# Altium footprint library J 接插件.PcbLib: 458 footprints (part 20 of 29)
Each footprint in its own frame and in the unit in brackets; x right, y up, seen from the top. Pads: shape width x height; smd on the part's side, far side on the other; paste and mask are expansions set on the pad; w line width, h text height; cw(c..) or ccw(c..) is an arc to the next point about the centre after c.
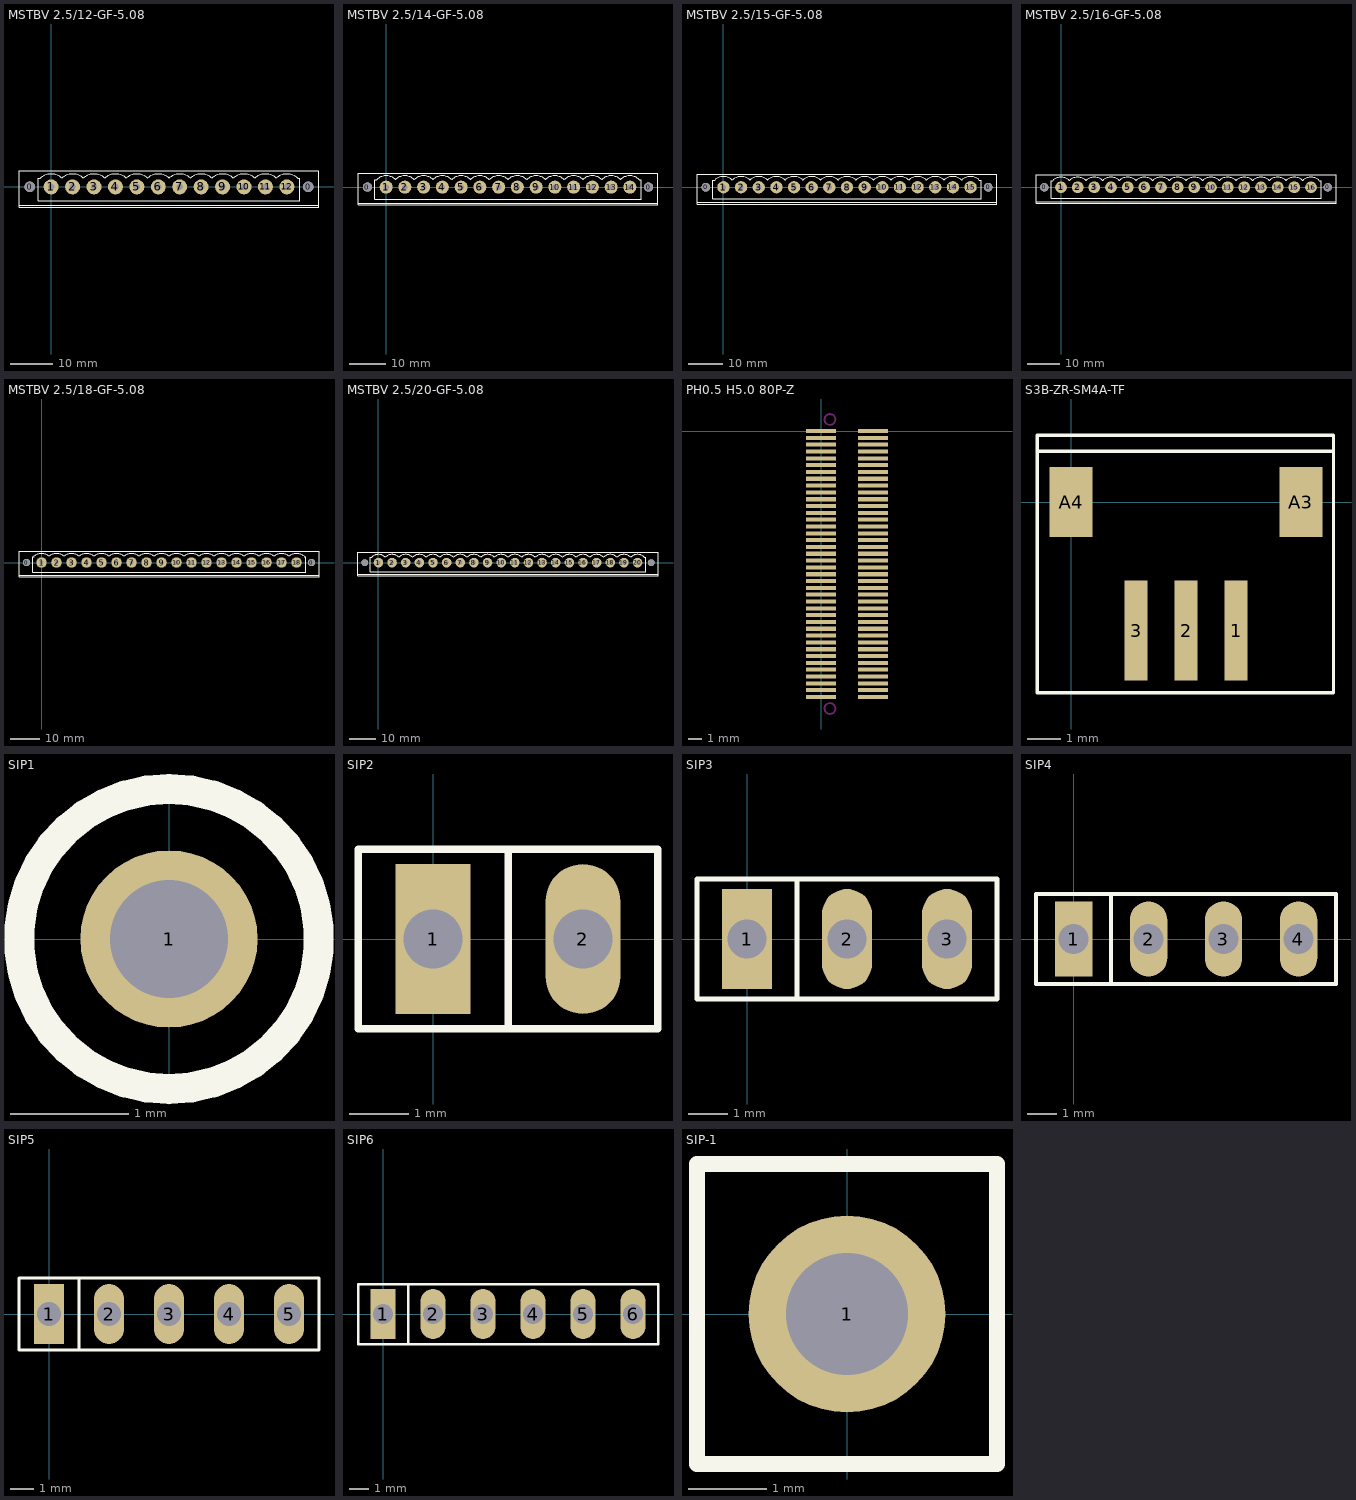
[diagram p19: the footprints below, top view; thin cyan lines are the x and y axes]

## MSTBV 2.5/12-GF-5.08 [mil] "菲尼克斯端子-5.08-带螺丝固定"
pads (14):
  round 98.43 hole 98.43: 0(-200,0) 0(2400,0)
  round 140 hole 59.05: 1(0,0) 2(200,0) 3(400,0) 4(600,0) 5(800,0) 6(1000,0) 7(1200,0) 8(1400,0) 9(1600,0) 10(1800,0) 11(2000,0) 12(2200,0)
Top Overlay:
  lines w10: -300,-170 2500,-170 ; -101.36,80.57 cw(c0,-30) 100.9,80.99 ; -100,80 -120,80 -120,-130 2320,-130 2320,80 2300,80 ; 98.64,80.57 cw(c200,-30) 300.9,80.99 ; 298.64,80.57 cw(c400,-30) 500.9,80.99 ; 498.64,80.57 cw(c600,-30) 700.9,80.99 ; 698.64,80.57 cw(c800,-30) 900.9,80.99 ; 899.1,80.99 cw(c1000,-30) 1100.9,80.99 ; 1098.64,80.57 cw(c1200,-30) 1300.9,80.99 ; 1298.64,80.57 cw(c1400,-30) 1500.9,80.99 ; 1498.64,80.57 cw(c1600,-30) 1700.9,80.99 ; 1698.64,80.57 cw(c1800,-30) 1900.9,80.99 ; 1898.64,80.57 cw(c2000,-30) 2100.9,80.99 ; 2098.64,80.57 cw(c2200,-30) 2300.9,80.99 ; -300,-190 -300,150 2500,150 2500,-190 -300,-190

## MSTBV 2.5/14-GF-5.08 [mil] "菲尼克斯端子-5.08-带螺丝固定"
pads (16):
  round 98.43 hole 98.43: 0(-200,0) 0(2800,0)
  round 140 hole 59.05: 1(0,0) 2(200,0) 3(400,0) 4(600,0) 5(800,0) 6(1000,0) 7(1200,0) 8(1400,0) 9(1600,0) 10(1800,0) 11(2000,0) 12(2200,0) 13(2400,0) 14(2600,0)
Top Overlay:
  lines w10: -300,-170 2900,-170 ; -101.36,80.57 cw(c0,-30) 100.9,80.99 ; -100,80 -120,80 -120,-130 2720,-130 2720,80 2700,80 ; 98.64,80.57 cw(c200,-30) 300.9,80.99 ; 298.64,80.57 cw(c400,-30) 500.9,80.99 ; 498.64,80.57 cw(c600,-30) 700.9,80.99 ; 698.64,80.57 cw(c800,-30) 900.9,80.99 ; 899.1,80.99 cw(c1000,-30) 1100.9,80.99 ; 1098.64,80.57 cw(c1200,-30) 1300.9,80.99 ; 1298.64,80.57 cw(c1400,-30) 1500.9,80.99 ; 1498.64,80.57 cw(c1600,-30) 1700.9,80.99 ; 1698.64,80.57 cw(c1800,-30) 1900.9,80.99 ; 1898.64,80.57 cw(c2000,-30) 2100.9,80.99 ; 2098.64,80.57 cw(c2200,-30) 2300.9,80.99 ; 2298.64,80.57 cw(c2400,-30) 2500.9,80.99 ; 2498.64,80.57 cw(c2600,-30) 2700.9,80.99 ; -300,-190 -300,150 2900,150 2900,-190 -300,-190

## MSTBV 2.5/15-GF-5.08 [mil] "菲尼克斯端子-5.08-带螺丝固定"
pads (17):
  round 98.43 hole 98.43: 0(-200,0) 0(3000,0)
  round 140 hole 59.05: 1(0,0) 2(200,0) 3(400,0) 4(600,0) 5(800,0) 6(1000,0) 7(1200,0) 8(1400,0) 9(1600,0) 10(1800,0) 11(2000,0) 12(2200,0) 13(2400,0) 14(2600,0) 15(2800,0)
Top Overlay:
  lines w10: -300,-170 3100,-170 ; -101.36,80.57 cw(c0,-30) 100.9,80.99 ; -100,80 -120,80 -120,-130 2920,-130 2920,80 2900,80 ; 98.64,80.57 cw(c200,-30) 300.9,80.99 ; 298.64,80.57 cw(c400,-30) 500.9,80.99 ; 498.64,80.57 cw(c600,-30) 700.9,80.99 ; 698.64,80.57 cw(c800,-30) 900.9,80.99 ; 899.1,80.99 cw(c1000,-30) 1100.9,80.99 ; 1098.64,80.57 cw(c1200,-30) 1300.9,80.99 ; 1298.64,80.57 cw(c1400,-30) 1500.9,80.99 ; 1498.64,80.57 cw(c1600,-30) 1700.9,80.99 ; 1698.64,80.57 cw(c1800,-30) 1900.9,80.99 ; 1898.64,80.57 cw(c2000,-30) 2100.9,80.99 ; 2098.64,80.57 cw(c2200,-30) 2300.9,80.99 ; 2298.64,80.57 cw(c2400,-30) 2500.9,80.99 ; 2498.64,80.57 cw(c2600,-30) 2700.9,80.99 ; 2698.64,80.57 cw(c2800,-30) 2900.9,80.99 ; -300,-190 -300,150 3100,150 3100,-190 -300,-190

## MSTBV 2.5/16-GF-5.08 [mil] "菲尼克斯端子-5.08-带螺丝固定"
pads (18):
  round 98.43 hole 98.43: 0(-200,0) 0(3200,0)
  round 140 hole 59.05: 1(0,0) 2(200,0) 3(400,0) 4(600,0) 5(800,0) 6(1000,0) 7(1200,0) 8(1400,0) 9(1600,0) 10(1800,0) 11(2000,0) 12(2200,0) 13(2400,0) 14(2600,0) 15(2800,0) 16(3000,0)
Top Overlay:
  lines w10: -300,-170 3300,-170 ; -101.36,80.57 cw(c0,-30) 100.9,80.99 ; -100,80 -120,80 -120,-130 3120,-130 3120,80 3100,80 ; 98.64,80.57 cw(c200,-30) 300.9,80.99 ; 298.64,80.57 cw(c400,-30) 500.9,80.99 ; 498.64,80.57 cw(c600,-30) 700.9,80.99 ; 698.64,80.57 cw(c800,-30) 900.9,80.99 ; 899.1,80.99 cw(c1000,-30) 1100.9,80.99 ; 1098.64,80.57 cw(c1200,-30) 1300.9,80.99 ; 1298.64,80.57 cw(c1400,-30) 1500.9,80.99 ; 1498.64,80.57 cw(c1600,-30) 1700.9,80.99 ; 1698.64,80.57 cw(c1800,-30) 1900.9,80.99 ; 1898.64,80.57 cw(c2000,-30) 2100.9,80.99 ; 2098.64,80.57 cw(c2200,-30) 2300.9,80.99 ; 2298.64,80.57 cw(c2400,-30) 2500.9,80.99 ; 2498.64,80.57 cw(c2600,-30) 2700.9,80.99 ; 2698.64,80.57 cw(c2800,-30) 2900.9,80.99 ; 2898.64,80.57 cw(c3000,-30) 3100.9,80.99 ; -300,-190 3300,-190 3300,150 -300,150 -300,-190

## MSTBV 2.5/18-GF-5.08 [mil] "菲尼克斯端子-5.08-带螺丝固定"
pads (20):
  round 98.43 hole 98.43: 0(-200,0) 0(3600,0)
  round 140 hole 59.05: 1(0,0) 2(200,0) 3(400,0) 4(600,0) 5(800,0) 6(1000,0) 7(1200,0) 8(1400,0) 9(1600,0) 10(1800,0) 11(2000,0) 12(2200,0) 13(2400,0) 14(2600,0) 15(2800,0) 16(3000,0) 17(3200,0) 18(3400,0)
Top Overlay:
  lines w10: -300,-170 3700,-170 ; -101.36,80.57 cw(c0,-30) 100.9,80.99 ; -100,80 -120,80 -120,-130 3520,-130 3520,80 3500,80 ; 98.64,80.57 cw(c200,-30) 300.9,80.99 ; 298.64,80.57 cw(c400,-30) 500.9,80.99 ; 498.64,80.57 cw(c600,-30) 700.9,80.99 ; 698.64,80.57 cw(c800,-30) 900.9,80.99 ; 899.1,80.99 cw(c1000,-30) 1100.9,80.99 ; 1098.64,80.57 cw(c1200,-30) 1300.9,80.99 ; 1298.64,80.57 cw(c1400,-30) 1500.9,80.99 ; 1498.64,80.57 cw(c1600,-30) 1700.9,80.99 ; 1698.64,80.57 cw(c1800,-30) 1900.9,80.99 ; 1898.64,80.57 cw(c2000,-30) 2100.9,80.99 ; 2098.64,80.57 cw(c2200,-30) 2300.9,80.99 ; 2298.64,80.57 cw(c2400,-30) 2500.9,80.99 ; 2498.64,80.57 cw(c2600,-30) 2700.9,80.99 ; 2698.64,80.57 cw(c2800,-30) 2900.9,80.99 ; 2898.64,80.57 cw(c3000,-30) 3100.9,80.99 ; 3098.64,80.57 cw(c3200,-30) 3300.9,80.99 ; 3298.64,80.57 cw(c3400,-30) 3500.9,80.99 ; 3695,150 -300,150 -300,-190 3700,-190 3700,150

## MSTBV 2.5/20-GF-5.08 [mil] "菲尼克斯端子-5.08-带螺丝固定"
pads (22):
  round 98.43 hole 98.43: 0(-200,0) 0(4000,0)
  round 140 hole 59.05: 1(0,0) 2(200,0) 3(400,0) 4(600,0) 5(800,0) 6(1000,0) 7(1200,0) 8(1400,0) 9(1600,0) 10(1800,0) 11(2000,0) 12(2200,0) 13(2400,0) 14(2600,0) 15(2800,0) 16(3000,0) 17(3200,0) 18(3400,0) 19(3600,0) 20(3800,0)
Top Overlay:
  lines w10: -300,-170 4100,-170 ; -101.36,80.57 cw(c0,-30) 100.9,80.99 ; -100,80 -120,80 -120,-130 3920,-130 3920,80 3900,80 ; 98.64,80.57 cw(c200,-30) 300.9,80.99 ; 298.64,80.57 cw(c400,-30) 500.9,80.99 ; 498.64,80.57 cw(c600,-30) 700.9,80.99 ; 698.64,80.57 cw(c800,-30) 900.9,80.99 ; 899.1,80.99 cw(c1000,-30) 1100.9,80.99 ; 1098.64,80.57 cw(c1200,-30) 1300.9,80.99 ; 1298.64,80.57 cw(c1400,-30) 1500.9,80.99 ; 1498.64,80.57 cw(c1600,-30) 1700.9,80.99 ; 1698.64,80.57 cw(c1800,-30) 1900.9,80.99 ; 1898.64,80.57 cw(c2000,-30) 2100.9,80.99 ; 2098.64,80.57 cw(c2200,-30) 2300.9,80.99 ; 2298.64,80.57 cw(c2400,-30) 2500.9,80.99 ; 2498.64,80.57 cw(c2600,-30) 2700.9,80.99 ; 2698.64,80.57 cw(c2800,-30) 2900.9,80.99 ; 2898.64,80.57 cw(c3000,-30) 3100.9,80.99 ; 3098.64,80.57 cw(c3200,-30) 3300.9,80.99 ; 3298.64,80.57 cw(c3400,-30) 3500.9,80.99 ; 3498.64,80.57 cw(c3600,-30) 3700.9,80.99 ; 3698.64,80.57 cw(c3800,-30) 3900.9,80.99 ; -300,-190 -300,150 4100,150 4100,-190 -300,-190

## null [mil] "接插件"
height 86.61

## PH0.5 H5.0 80P-Z [mm]
height 1.75
pads (80):
  rect 2.2x0.3 smd: 1(0,0) 2(3.8,0) 3(0,-0.5) 4(3.8,-0.5) 5(0,-1) 6(3.8,-1) 7(0,-1.5) 8(3.8,-1.5) 9(0,-2) 10(3.8,-2) 11(0,-2.5) 12(3.8,-2.5) 13(0,-3) 14(3.8,-3) 15(0,-3.5) 16(3.8,-3.5) 17(0,-4) 18(3.8,-4) 19(0,-4.5) 20(3.8,-4.5) 21(0,-5) 22(3.8,-5) 23(0,-5.5) 24(3.8,-5.5) 25(0,-6) 26(3.8,-6) 27(0,-6.5) 28(3.8,-6.5) 29(0,-7) 30(3.8,-7) 31(0,-7.5) 32(3.8,-7.5) 33(0,-8) 34(3.8,-8) 35(0,-8.5) 36(3.8,-8.5) 37(0,-9) 38(3.8,-9) 39(0,-9.5) 40(3.8,-9.5) 41(0,-10) 42(3.8,-10) 43(0,-10.5) 44(3.8,-10.5) 45(0,-11) 46(3.8,-11) 47(0,-11.5) 48(3.8,-11.5) 49(0,-12) 50(3.8,-12) 51(0,-12.5) 52(3.8,-12.5) 53(0,-13) 54(3.8,-13) 55(0,-13.5) 56(3.8,-13.5) 57(0,-14) 58(3.8,-14) 59(0,-14.5) 60(3.8,-14.5) 61(0,-15) 62(3.8,-15) 63(0,-15.5) 64(3.8,-15.5) 65(0,-16) 66(3.8,-16) 67(0,-16.5) 68(3.8,-16.5) 69(0,-17) 70(3.8,-17) 71(0,-17.5) 72(3.8,-17.5) 73(0,-18) 74(3.8,-18) 75(0,-18.5) 76(3.8,-18.5) 77(0,-19) 78(3.8,-19) 79(0,-19.5) 80(3.8,-19.5)
Keep-Out Layer:
  circle w0.127: c0.65,0.85 r0.4
  circle w0.127: c0.65,-20.35 r0.4

## S3B-ZR-SM4A-TF [mm] "品牌：JST，PIN数：3，间距：1.5mm"
pads (5):
  rect 0.7x3 smd: 1(4.95,-3.85) 2(3.45,-3.85) 3(1.95,-3.85)
  rect 1.3x2.1 smd: A3(6.9,0) A4(0,0)
Top Overlay:
  lines w0.1: -1.016,1.524 7.874,1.524 ; -1.016,-5.715 7.874,-5.715 7.874,2.005 -1.016,2.005 -1.016,-5.715

## SIP1 [mm]
pads (1):
  round 1.5 hole 1: 1(0,0)
Top Overlay:
  lines w0.254: 0,-1.27 cw(c0,0) 0,1.27 cw(c0,0) 0,-1.27

## SIP2 [mm]
pads (2):
  rect 1.27x2.54 hole 1: 1(0,0)
  oval 1.27x2.54 hole 1: 2(2.54,0)
Top Overlay:
  lines w0.127: 1.27,-1.524 1.27,1.524 ; -1.27,-1.524 3.81,-1.524 3.81,1.524 -1.27,1.524 -1.27,-1.524

## SIP3 [mm]
pads (3):
  rect 1.27x2.54 hole 1: 1(0,0)
  oval 1.27x2.54 hole 1: 2(2.54,0) 3(5.08,0)
Top Overlay:
  lines w0.127: 1.27,-1.524 1.27,1.524 ; -1.27,-1.524 6.35,-1.524 6.35,1.524 -1.27,1.524 -1.27,-1.524

## SIP4 [mm]
pads (4):
  rect 1.27x2.54 hole 1: 1(0,0)
  oval 1.27x2.54 hole 1: 2(2.54,0) 3(5.08,0) 4(7.62,0)
Top Overlay:
  lines w0.127: 1.27,-1.524 1.27,1.524 ; -1.27,-1.524 -1.27,1.524 8.89,1.524 8.89,-1.524 -1.27,-1.524

## SIP5 [mm]
pads (5):
  rect 1.27x2.54 hole 1: 1(0,0)
  oval 1.27x2.54 hole 1: 2(2.54,0) 3(5.08,0) 4(7.62,0) 5(10.16,0)
Top Overlay:
  lines w0.127: 1.27,-1.524 1.27,1.524 ; -1.27,-1.524 11.43,-1.524 11.43,1.524 -1.27,1.524 -1.27,-1.524

## SIP6 [mm]
pads (6):
  rect 1.27x2.54 hole 1: 1(0,0)
  oval 1.27x2.54 hole 1: 2(2.54,0) 3(5.08,0) 4(7.62,0) 5(10.16,0) 6(12.7,0)
Top Overlay:
  lines w0.127: 1.27,-1.524 1.27,1.524 ; -1.27,-1.524 13.97,-1.524 13.97,1.524 -1.27,1.524 -1.27,-1.524

## SIP-1 [mm] "探针"
pads (1):
  round 2.5 hole 1.55: 1(0,0)
Top Overlay:
  lines w0.2: -1.905,-1.905 -1.905,1.905 1.905,1.905 1.905,-1.905 -1.905,-1.905